# EAGLE library part ADS_1115_PULPO (library ADS_1115_PULPO)
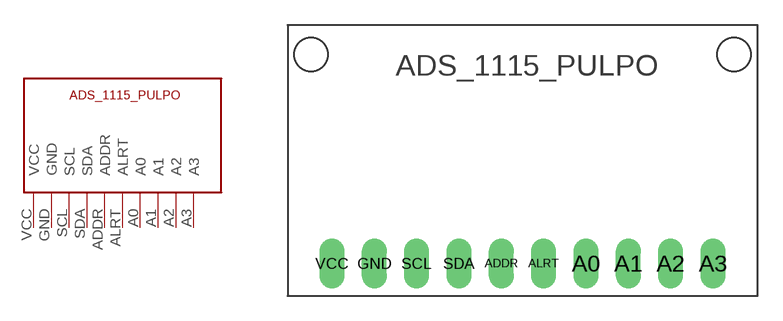
[diagram p0: symbol with the pads of ADS_1115_PULPO; footprint ADS_1115_PULPO]

Designator prefix -

## ADS_1115_PULPO  [ADS_1115_PULPO]
A0  A0
A1  A1
A2  A2
A3  A3
ADDR  ADDR
ALRT  ALRT
GND  GND
SCL  SCL
SDA  SDA
VCC  VCC

## Footprint ADS_1115_PULPO (pad centres in mm)
drill 1 pad 1.5 long: A0 3.81,-6.185; A1 6.35,-6.185; A2 8.89,-6.185; A3 11.43,-6.185; ADDR -1.27,-6.185; ALRT 1.27,-6.185; GND -8.89,-6.185; SCL -6.35,-6.185; SDA -3.81,-6.185; VCC -11.43,-6.185